# Altium footprint library 4G.PcbLib: 31 footprints (part 1 of 2)
Each footprint in its own frame and in the unit in brackets; x right, y up, seen from the top. Pads: shape width x height; smd on the part's side, far side on the other; paste and mask are expansions set on the pad; w line width, h text height; cw(c..) or ccw(c..) is an arc to the next point about the centre after c.
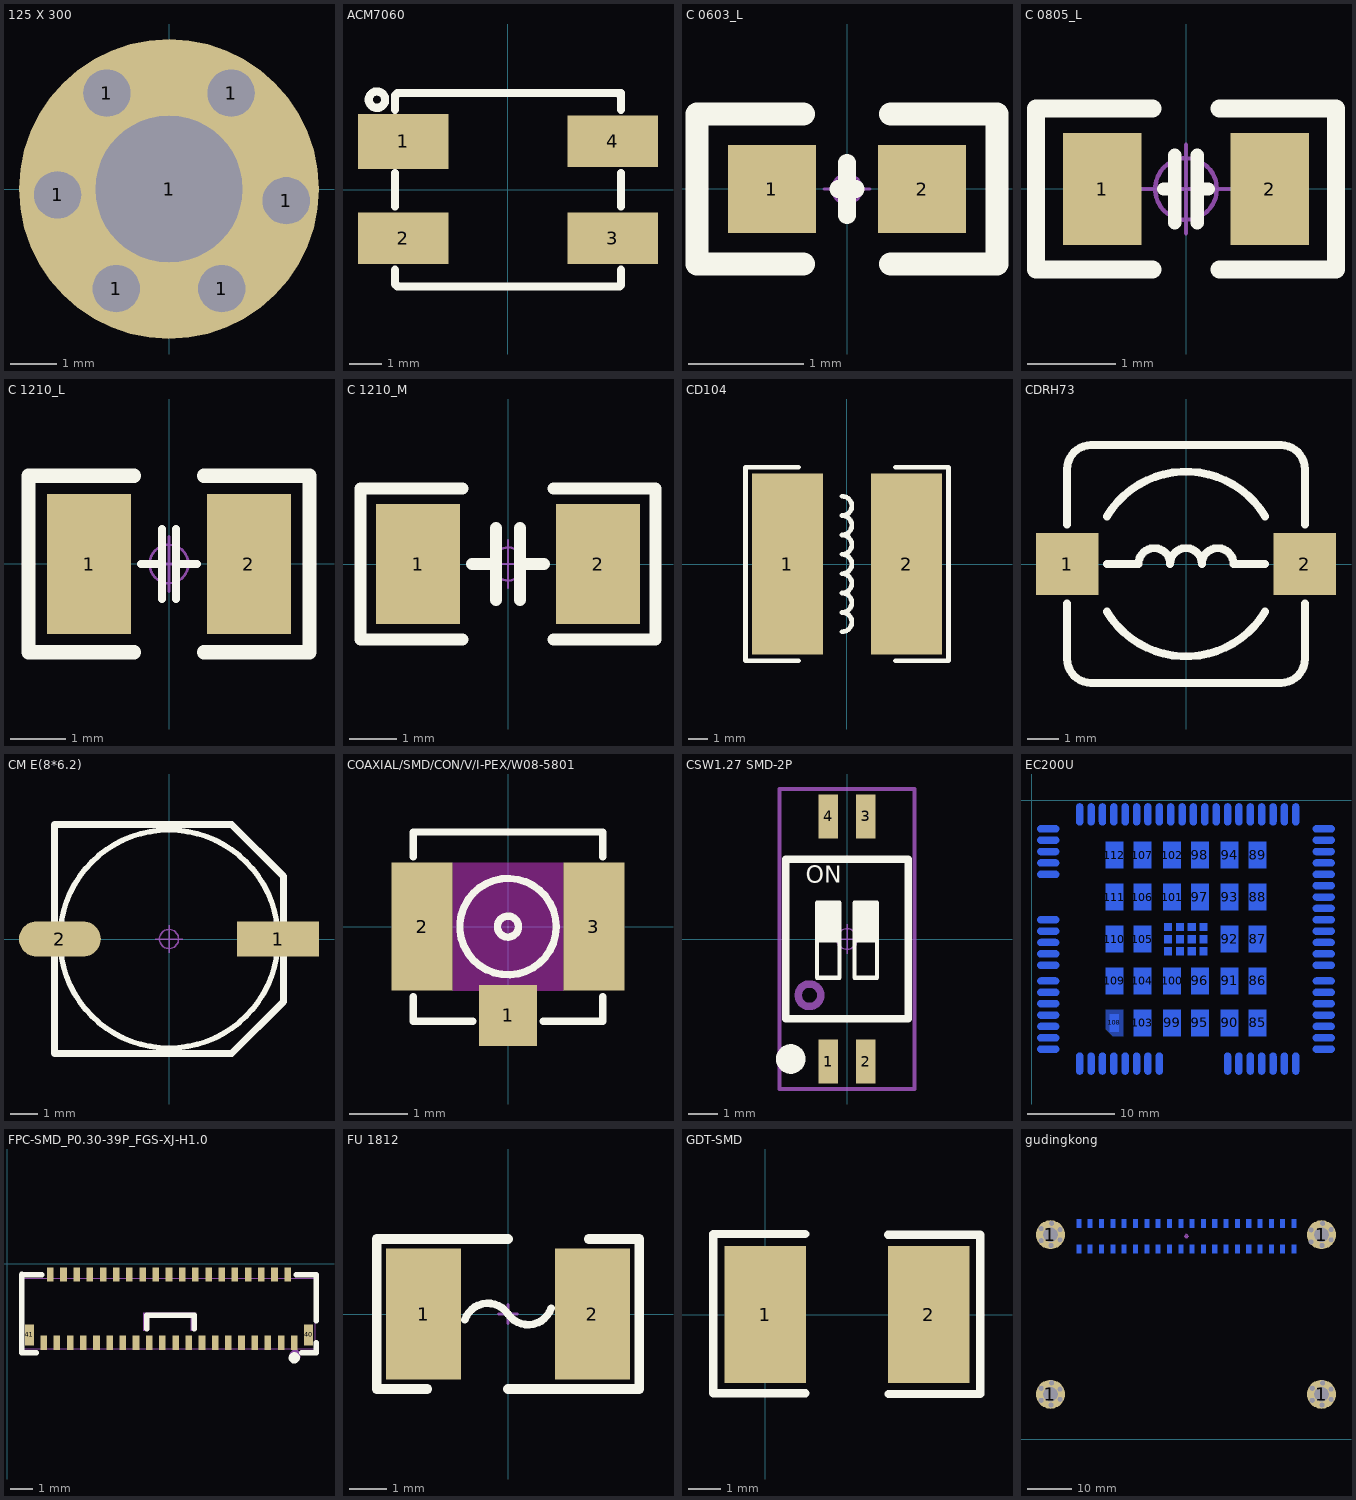
[diagram p0: the footprints below, top view; thin cyan lines are the x and y axes]

## 125 X 300 [mil]
pads (7):
  round 40 hole 40 slot 40.2 at 0 deg paste-99999 mask+4: 1(-95,-5) 1(100,-10)
  round 40 hole 40 slot 40.2 at 120 deg paste-99999 mask+4: 1(-53,81.8) 1(45,-85)
  round 40 hole 40 slot 40.2 at 60 deg paste-99999 mask+4: 1(-45,-85) 1(53,81.8)
  round 255.91 hole 125 slot 125.2 at 0 deg paste-99999 mask+4: 1(0,0)

## ACM7060 [mm]
height 1.6
pads (4):
  rect 2.8x1.7 smd: 1(-3.251,1.5)
  rect 2.8x1.6 smd: 2(-3.251,-1.5) 3(3.251,-1.5) 4(3.251,1.5)
Top Overlay:
  circle w0.254: c-4.064,2.794 r0.254
  lines w0.254: -3.5,-2.48 -3.5,-2.888 ccw(c-3.388,-2.888) -3.388,-2.999 ; -3.5,-0.516 -3.5,0.516 ; -3.5,2.48 -3.5,2.889 cw(c-3.388,2.889) -3.388,3.001 ; -3.378,-2.997 -1.6,-2.997 1.651,-2.997 3.429,-2.997 ; -3.378,2.998 -1.6,2.998 1.651,2.998 3.378,2.998 ; 3.388,3.001 cw(c3.388,2.889) 3.5,2.889 ; 3.429,-2.999 ccw(c3.429,-2.928) 3.5,-2.929 3.5,-2.48 ; 3.5,-0.516 3.5,0.516 ; 3.5,2.48 3.5,2.998

## C 0603_L [mil] "无极性贴片电容                                       淘宝ID:黄晶宝石"
height 100
pads (2):
  rect 30x30 smd: 1(-25.59,0) 2(25.59,0)
Top Overlay:
  lines w6: -3,0 0,0 3,0 ; 0,-9 0,9
  lines w8: -15,-25.59 -51.18,-25.59 -51.18,25.59 -15,25.59 ; 15,-25.59 51.18,-25.59 51.18,25.59 15,25.59
Mechanical 15:
  circle w1: c0,0 r5
  lines w1: -7.87,0 7.87,0 ; 0,-7.87 0,7.87
3D body "C 0603.STEP": height 31.89, standoff -0.39, extent -31.5,-16.14 31.5,16.14

## C 0805_L [mil] "无极性贴片电容                                        淘宝ID:黄晶宝石"
height 19.68
pads (2):
  rect 35x50 smd: 1(-37.4,0) 2(37.4,0)
Top Overlay:
  lines w6: -10,0 -5,0 ; -5,-15 -5,15 ; 5,-15 5,15 ; 5,0 10,0
  lines w8: -15,-36 -66.93,-36 -66.93,36 -15,36 ; 15,-36 66.93,-36 66.93,36 15,36
Mechanical 15:
  circle w1.97: c0,0 r13.78
  circle w1.97: c0,0 r13.78
  lines w1.97: -19.68,0 19.69,0 -19.68,0 ; 0,-19.68 0,19.69 0,-19.68
3D body "C 0805.STEP": height 20.08, standoff -0.39, extent -39.37,-24.02 39.37,24.02

## C 1210_L [mm] "无极性贴片电容                                淘宝ID:黄晶宝石"
height 0.254
pads (2):
  rect 1.524x2.54 smd: 1(-1.45,0) 2(1.45,0)
Top Overlay:
  lines w0.152: -0.508,0 -0.127,0 ; -0.127,-0.635 -0.127,0.635 ; 0.127,-0.635 0.127,0.635 ; 0.127,0 0.508,0
  lines w0.254: -0.635,-1.6 -2.55,-1.6 -2.55,1.6 -0.635,1.6 ; 0.635,-1.6 2.55,-1.6 2.55,1.6 0.635,1.6
Mechanical 15:
  circle w0.05: c0,0 r0.35
  lines w0.05: -0.5,0 0.5,0 ; 0,-0.5 0,0.5
3D body "C 1210.STEP": height 1.54, standoff 0.01, extent -1.6,-1.285 1.6,1.285

## C 1210_M [mil] "无极性贴片电容                                         淘宝ID:黄晶宝石"
height 100
pads (2):
  rect 70x100 smd: 1(-75,0) 2(75,0)
Top Overlay:
  lines w10: -38,-63 -123,-63 -123,63 -38,63 ; -30,0 -10,0 ; -10,-30 -10,30 ; 10,-30 10,30 ; 10,0 30,0 ; 38,-63 123,-63 123,63 38,63
Mechanical 15:
  circle w1.97: c0,0 r13.78
  lines w1.97: -19.69,0 19.68,0 ; 0,-19.69 0,19.68
3D body "C 1210.STEP": height 60.43, standoff 0.2, extent -62.99,-50.59 62.99,50.59

## CD104 [mm] "10*9*4mm（长宽高）            联系卖家 免费查找封装"
height 2.54
pads (2):
  rect 3.75x9.5 smd: 1(-3.125,0) 2(3.125,0)
Top Overlay:
  lines w0.254: -2.54,-5.08 -5.334,-5.08 -5.334,5.08 -2.54,5.08 ; -0.254,-3.556 ccw(c-0.254,-3.048) -0.254,-2.54 ccw(c-0.254,-2.032) -0.254,-1.524 ccw(c-0.254,-1.016) -0.254,-0.508 ccw(c-0.254,0) -0.254,0.508 ccw(c-0.254,1.016) -0.254,1.524 ccw(c-0.254,2.032) -0.254,2.54 ccw(c-0.254,3.048) -0.254,3.556 ; 2.54,-5.08 5.334,-5.08 5.334,5.08 2.54,5.08
3D body "CD104.STEP": height 4.7, standoff 0, extent -4.954,-4.5 4.954,4.5

## CDRH73 [mm] "7.3*7.3*3.4mm（长宽高）"
height 2.54
pads (2):
  rect 2x2 smd: 1(-3.81,0) 2(3.81,0)
Top Overlay:
  lines w0.254: -3.81,-1.27 -3.81,-3.048 ccw(c-3.048,-3.048) -3.048,-3.81 3.048,-3.81 ccw(c3.048,-3.048) 3.81,-3.048 3.81,-1.27 ; -3.81,1.27 -3.81,3.048 cw(c-3.048,3.048) -3.048,3.81 3.048,3.81 cw(c3.048,3.048) 3.81,3.048 3.81,1.27 ; -2.54,-1.524 ccw(c0,0) 2.54,-1.524 ; -2.54,0 -1.524,0 cw(c-1.016,0) -0.508,0 cw(c0,0) 0.508,0 cw(c1.016,0) 1.524,0 2.54,0 ; -2.54,1.524 cw(c0,0) 2.54,1.524
3D body "CDRH73.STEP": height 3.8, standoff 0.15, extent -3.65,-3.65 3.65,3.65

## CM E(8*6.2) [mm] "贴片电解电容，直径8mm，高6.2mm        淘宝ID:黄晶宝石"
height 2.54
pads (2):
  rect 3x1.3 smd: 1(4,0)
  oval 3x1.3 smd: 2(-4,0)
Top Overlay:
  circle w0.2: c0,0 r4
  lines w0.254: -4.2,-4.2 -4.2,4.2 2.3,4.2 4.2,2.3 4.2,-2.3 2.3,-4.2 -4.2,-4.2
Mechanical 15:
  circle w0.05: c0,0 r0.35
  lines w0.05: -0.5,0 0.5,0 ; 0,-0.5 0,0.5
3D body "CM E(8X6.2).STEP": height 6.2, standoff -0.01, extent -4.5,-4.15 4.5,4.15

## COAXIAL/SMD/CON/V/I-PEX/W08-5801 [mm] "https://shop463601444.taobao.com"
height 2.54
pads (3):
  rect 1x1.05 smd: 1(0,-1.525)
  rect 1.05x2.2 smd: 2(-1.475,0) 3(1.475,0)
Top Overlay:
  circle w0.127: c0,0 r0.18
  circle w0.127: c0,0 r0.828
  lines w0.127: -1.625,-1.2 -1.625,-1.625 -0.6,-1.625 ; -1.625,1.2 -1.625,1.625 1.625,1.625 1.625,1.2 ; 0.6,-1.625 1.625,-1.625 1.625,-1.2
Keep-Out Layer:
  pour cut-out: -0.95,1.1 0.95,1.1 0.95,-1.1 0.5,-1.1 0.5,-1 -0.5,-1 -0.5,-1.1 -0.95,-1.1

## CSW1.27 SMD-2P [mm] "长：4.14mm，宽：5.4mm，高：2.3mm          淘宝ID:黄晶宝石"
pads (4):
  rect 0.65x1.5 smd: 1(-0.635,-4.15) 2(0.635,-4.15) 3(0.635,4.15) 4(-0.635,4.15)
Top Overlay:
  circle w0.5: c-1.905,-4.064 r0.25
  region: 1.016,1.225 0.254,1.225 0.254,-0.045 1.016,-0.045
  region: -0.254,1.225 -1.016,1.225 -1.016,-0.045 -0.254,-0.045
  lines w0.15: -1.016,-0.045 -0.254,-0.045 ; 0.254,-0.045 1.016,-0.045 ; -1.016,-1.315 -1.016,1.225 -0.254,1.225 -0.254,-1.315 -1.016,-1.315 ; 0.254,-1.315 0.254,1.225 1.016,1.225 1.016,-1.315 0.254,-1.315
  lines w0.254: -2.07,-2.7 2.07,-2.7 2.07,2.7 -2.07,2.7 -2.07,-2.7
  text "ON" at -1.397,1.696 h1
Mechanical 13:
  circle w0.254: c-1.27,-1.905 r0.381
  lines w0.15: -2.032,-2.7 -2.032,2.7 2.032,2.7 2.032,-2.7 -2.032,-2.7
Mechanical 15:
  circle w0.05: c0,0 r0.35
  lines w0.05: -0.5,0 0.5,0 ; 0,-0.5 0,0.5
  lines w0.15: -2.286,-5.08 -2.286,5.08 2.286,5.08 2.286,-5.08 2.159,-5.08 -2.286,-5.08
3D body "CSW1.27-SMD-2P.STEP": height 2.35, standoff 0, extent -2.07,-4.35 2.07,4.35

## EC200U [mm] "贴片电解电容，直径6.3mm，高5.4mm"
height 5.4
pads (112):
  oval 2.5x0.8 smd far side mask+0.05: 1(1.903,-28.475) 2(1.903,-27.175) 3(1.903,-25.875) 4(1.903,-24.575) 5(1.903,-23.275) 6(1.903,-21.975) 7(1.903,-20.675) 8(1.903,-16.275) 9(1.903,-14.975) 10(1.903,-13.675) 14(1.903,-8.475) 15(1.903,-7.175) 16(1.903,-5.875) 17(1.903,-4.575) 18(1.903,-3.275) 37(33.403,-3.275) 38(33.403,-4.575) 39(33.403,-5.875) 40(33.403,-7.175) 41(33.403,-8.475) 42(33.403,-9.775) 43(33.403,-11.075) 44(33.403,-12.375) 45(33.403,-13.675) 46(33.403,-14.975) 47(33.403,-16.275) 48(33.403,-20.675) 49(33.403,-21.975) 50(33.403,-23.275) 51(33.403,-24.575) 52(33.403,-25.875) 53(33.403,-27.175) 54(33.403,-28.475) 141(1.903,-18.875) 142(1.903,-17.575) 143(33.403,-17.575) 144(33.403,-18.875)
  oval 0.8x2.5 smd far side mask+0.05: 19(8.103,-1.625) 20(9.403,-1.625) 21(10.703,-1.625) 22(12.003,-1.625) 23(13.303,-1.625) 24(14.603,-1.625) 25(15.903,-1.625) 26(17.203,-1.625) 27(18.503,-1.625) 28(19.803,-1.625) 29(21.103,-1.625) 30(22.403,-1.625) 31(23.703,-1.625) 32(25.003,-1.625) 33(26.303,-1.625) 34(27.603,-1.625) 35(28.903,-1.625) 36(30.203,-1.625) 55(30.203,-30.125) 56(28.903,-30.125) 57(27.603,-30.125) 58(26.303,-30.125) 59(25.003,-30.125) 60(23.703,-30.125) 61(22.403,-30.125) 67(14.603,-30.125) 68(13.303,-30.125) 69(12.003,-30.125) 70(10.703,-30.125) 71(9.403,-30.125) 72(8.103,-30.125) 113(6.803,-30.125) 114(5.503,-30.125) 115(6.803,-1.625) 116(5.503,-1.625)
  rect 0.889x0.889 smd far side mask+0.05: 73(19.665,-17.285) 74(19.665,-15.888) 75(19.665,-14.491) 76(18.31,-17.285) 77(18.31,-15.888) 78(18.31,-14.491) 79(16.956,-17.285) 80(16.956,-15.888) 81(16.956,-14.491) 82(15.601,-17.285) 83(15.601,-15.888) 84(15.601,-14.491)
  rect 2x3 smd far side mask+0.05: 85(25.853,-25.475) 86(25.853,-20.675) 87(25.853,-15.875) 88(25.853,-11.075) 89(25.853,-6.275) 90(22.653,-25.475) 91(22.653,-20.675) 92(22.653,-15.875) 93(22.653,-11.075) 94(22.653,-6.275) 95(19.253,-25.475) 96(19.253,-20.675) 97(19.253,-11.075) 98(19.253,-6.275) 99(16.053,-25.475) 100(16.053,-20.675) 101(16.053,-11.075) 102(16.053,-6.275) 103(12.653,-25.475) 104(12.653,-20.675) 105(12.653,-15.875) 106(12.653,-11.075) 107(12.653,-6.275) 109(9.453,-20.675) 110(9.453,-15.875) 111(9.453,-11.075) 112(9.453,-6.275)
  rect 1x2 smd far side mask+0.05: 108(9.453,-25.475)
Bottom Layer:
  region: 8.453,-26.175 9.253,-26.975 10.453,-26.975 10.453,-23.975 8.453,-23.975
Bottom Overlay:
  lines w0.01: 0.503,-31.525 0.503,-0.225 34.803,-0.225 34.803,-31.525 0.503,-31.525
  lines w0.102: 1.653,-29.625 2.403,-30.375 ; 1.653,-30.375 1.653,-29.925 2.103,-30.375 1.653,-30.375 ; 1.653,-30.375 1.653,-1.375 33.653,-1.375 33.653,-30.375 1.653,-30.375
Bottom Paste:
  region: 8.453,-26.175 9.253,-26.975 10.453,-26.975 10.453,-23.975 8.453,-23.975
Bottom Solder:
  region: 8.403,-23.925 10.503,-23.925 10.503,-27.025 9.203,-27.025 8.403,-26.225
3D body: height 1, standoff 0, extent 1.637,-30.353 33.655,-1.397

## FPC-SMD_P0.30-39P_FGS-XJ-H1.0 [mm]
height 2.54
pads (41):
  rect 0.3x0.65 smd paste+0 mask+0.051: 1(13.066,-3.582) 2(12.766,-0.482) 3(12.466,-3.582) 4(12.166,-0.482) 5(11.866,-3.582) 6(11.566,-0.482) 7(11.266,-3.582) 8(10.966,-0.482) 9(10.666,-3.582) 10(10.366,-0.482) 11(10.066,-3.582) 12(9.766,-0.482) 13(9.466,-3.582) 14(9.166,-0.482) 15(8.866,-3.582) 16(8.566,-0.482) 17(8.266,-3.582) 18(7.966,-0.482) 19(7.666,-3.582) 20(7.366,-0.482) 21(7.066,-3.582) 22(6.766,-0.482) 23(6.466,-3.582) 24(6.166,-0.482) 25(5.866,-3.582) 26(5.566,-0.482) 27(5.266,-3.582) 28(4.966,-0.482) 29(4.666,-3.582) 30(4.366,-0.482) 31(4.066,-3.582) 32(3.766,-0.482) 33(3.466,-3.582) 34(3.166,-0.482) 35(2.866,-3.582) 36(2.566,-0.482) 37(2.266,-3.582) 38(1.966,-0.482) 39(1.666,-3.582)
  rect 0.4x0.95 smd paste+0 mask+0.051: 40(13.716,-3.232) 41(1.016,-3.232)
Top Overlay:
  circle w0.254: c13.066,-4.272 r0.127
  lines w0.254: 0.666,-3.882 0.666,-4.032 ; 0.666,-2.582 0.666,-0.482 0.666,-3.582 0.666,-4.032 ; 0.666,-0.488 1.585,-0.488 ; 1.322,-4.032 0.666,-4.032 ; 6.346,-2.952 6.346,-2.332 8.506,-2.332 8.506,-2.952 ; 13.147,-0.488 14.071,-0.488 ; 13.41,-4.032 14.067,-4.032 ; 14.067,-3.881 14.067,-4.03 14.067,-3.58 ; 14.067,-2.583 14.067,-0.488
Mechanical 6:
  circle w0.254: c13.106,-4.162 r0.127
  region: 8.356,-3.042 8.356,-2.452 8.366,-2.442 6.436,-2.442 6.436,-3.022 6.436,-3.042 6.416,-3.042 6.196,-3.042 6.196,-2.232 8.616,-2.232 8.616,-3.032 8.616,-3.042
Mechanical 15:
  drawing of 46 lines, arcs and shapes, not listed

## FU 1812 [mm] "贴片保险丝          淘宝ID:黄晶宝石"
height 1.6
pads (2):
  rect 2x3.5 smd: 1(-2.25,0) 2(2.25,0)
Top Overlay:
  lines w0.203: -1.15,-0.156 cw(c-0.537,-0.362) 0,0 ccw(c0.537,0.362) 1.15,0.156
  lines w0.254: -2.159,-2 -3.5,-2 -3.5,2 0,2 ; 0,-2 3.5,-2 3.5,2 2.159,2
Mechanical 15:
  lines w0.076: -0.254,0 0.254,0 ; 0,-0.254 0,0.254
3D body "FU 01812.STEP": height 0.87, standoff 0, extent -2.3,-1.61 2.3,1.61

## GDT-SMD [mm]
height 1.6
pads (2):
  rect 2.5x4.2 smd: 1(0,0) 2(5,0)
Top Overlay:
  lines w0.254: 1.22,2.47 -1.6,2.47 -1.6,-2.41 1.23,-2.41 ; 3.76,2.45 6.59,2.45 6.59,-2.43 3.77,-2.43

## gudingkong [mil]
pads (68):
  round 40 hole 40 slot 40.2 at 30 deg paste-99999 mask+4: 1(504.5,342.55) 1(504.5,1752) 1(671.3,440.55) 1(671.3,1850) 1(2888.2,1742) 1(2898.2,342.55) 1(3065,440.55) 1(3065,1850)
  round 40 hole 40 slot 40.2 at 150 deg paste-99999 mask+4: 1(504.5,448.55) 1(504.5,1858) 1(671.3,350.55) 1(671.3,1760) 1(2888.2,1848) 1(2898.2,448.55) 1(3065,350.55) 1(3065,1760)
  round 255.91 hole 125 slot 125.2 at 90 deg paste-99999 mask+4: 1(586.3,395.55) 1(586.3,1805) 1(2980,395.55) 1(2980,1805)
  round 40 hole 40 slot 40.2 at 90 deg paste-99999 mask+4: 1(591.3,300.55) 1(591.3,1710) 1(596.3,495.55) 1(596.3,1905) 1(2985,300.55) 1(2985,1710) 1(2990,495.55) 1(2990,1905)
  rect 40.16x74.8 smd far side: 1(837.16,1679.59) 2(837.16,1904) 3(937.16,1679.59) 4(937.16,1904) 5(1037.16,1679.59) 6(1037.16,1904) 7(1137.16,1679.59) 8(1137.16,1904) 9(1237.16,1679.59) 10(1237.16,1904) 11(1337.16,1679.59) 12(1337.16,1904) 13(1437.16,1679.59) 14(1437.16,1904) 15(1537.16,1679.59) 16(1537.16,1904) 17(1637.16,1679.59) 18(1637.16,1904) 19(1737.16,1679.59) 20(1737.16,1904) 21(1837.16,1679.59) 22(1837.16,1904) 23(1937.16,1679.59) 24(1937.16,1904) 25(2037.16,1679.59) 26(2037.16,1904) 27(2137.16,1679.59) 28(2137.16,1904) 29(2237.16,1679.59) 30(2237.16,1904) 31(2337.16,1679.59) 32(2337.16,1904) 33(2437.16,1679.59) 34(2437.16,1904) 35(2537.16,1679.59) 36(2537.16,1904) 37(2637.16,1679.59) 38(2637.16,1904) 39(2737.16,1679.59) 40(2737.16,1904)
Bottom Overlay:
  drawing of 164 lines, arcs and shapes, not listed
  text "2" at 762.16,1851.79 h40
  text "1" at 752.16,1761.79 h40
  text "39" at 2807.16,1771.79 h40
  text "40" at 2802.16,1871.79 h40
Mechanical 1:
  lines w10: 587.84,1778.21 587.84,1805
Mechanical 15:
  circle w1.97: c1787.16,1791.79 r13.78
  lines w1.97: 1767.48,1791.79 1806.85,1791.79 ; 1787.16,1772.11 1787.16,1811.48
3D body "HDR2.54 2x1P_M.STEP": height 202.76, standoff 0, extent 885.99,1665.81 988.35,1917.78
3D body "HDR2.54 2x1P_M.STEP": height 202.76, standoff 0, extent 785.98,1665.81 888.35,1917.78
3D body "HDR2.54 2x1P_M.STEP": height 202.76, standoff 0, extent 1085.99,1665.81 1188.35,1917.78
3D body "HDR2.54 2x1P_M.STEP": height 202.76, standoff 0, extent 985.98,1665.81 1088.35,1917.78
3D body "HDR2.54 2x1P_M.STEP": height 202.76, standoff 0, extent 1285.99,1665.81 1388.35,1917.78
3D body "HDR2.54 2x1P_M.STEP": height 202.76, standoff 0, extent 1185.98,1665.81 1288.35,1917.78
3D body "HDR2.54 2x1P_M.STEP": height 202.76, standoff 0, extent 1485.99,1665.81 1588.35,1917.78
3D body "HDR2.54 2x1P_M.STEP": height 202.76, standoff 0, extent 1385.98,1665.81 1488.35,1917.78
3D body "HDR2.54 2x1P_M.STEP": height 202.76, standoff 0, extent 1685.99,1665.81 1788.35,1917.78
3D body "HDR2.54 2x1P_M.STEP": height 202.76, standoff 0, extent 1585.98,1665.81 1688.35,1917.78
3D body "HDR2.54 2x1P_M.STEP": height 202.76, standoff 0, extent 1885.99,1665.81 1988.35,1917.78
3D body "HDR2.54 2x1P_M.STEP": height 202.76, standoff 0, extent 1785.98,1665.81 1888.35,1917.78
3D body "HDR2.54 2x1P_M.STEP": height 202.76, standoff 0, extent 2085.99,1665.81 2188.35,1917.78
3D body "HDR2.54 2x1P_M.STEP": height 202.76, standoff 0, extent 1985.98,1665.81 2088.35,1917.78
3D body "HDR2.54 2x1P_M.STEP": height 202.76, standoff 0, extent 2285.99,1665.81 2388.35,1917.78
3D body "HDR2.54 2x1P_M.STEP": height 202.76, standoff 0, extent 2185.98,1665.81 2288.35,1917.78
3D body "HDR2.54 2x1P_M.STEP": height 202.76, standoff 0, extent 2485.99,1665.81 2588.35,1917.78
3D body "HDR2.54 2x1P_M.STEP": height 202.76, standoff 0, extent 2385.98,1665.81 2488.35,1917.78
3D body "HDR2.54 2x1P_M.STEP": height 202.76, standoff 0, extent 2685.99,1665.81 2788.35,1917.78
3D body "HDR2.54 2x1P_M.STEP": height 202.76, standoff 0, extent 2585.98,1665.81 2688.35,1917.78